# EAGLE library part BD6221F (library CamSensComponents)
H-bridge driver (full bridge driver) for brush motor applications
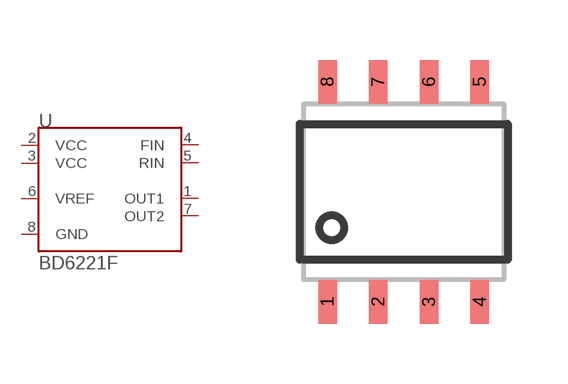
[diagram p0: symbol with the pads of SOP8; footprint SOP8]

Designator prefix U

## BD6221FSOP  [SOP8]
1  OUT1  out
2  VCC  pwr
3  VCC  pwr
4  FIN  in
5  RIN  in
6  VREF
7  OUT2  out
8  GND  pwr

## Footprint SOP8 (pad centres in mm)
Description Has 8 pins, 5x4.4mm device This package can also be found as SOIC8 For use with BD6221F-E2 (H-bridge) device
smd 0.462 x 1.1: 1 0.595,-0.55; 2 1.865,-0.55; 3 3.135,-0.55; 4 4.405,-0.55; 5 4.405,4.95; 6 3.135,4.95; 7 1.865,4.95; 8 0.595,4.95